# EAGLE library part RFM69HCW (library ipas)
RFM69HCW - ISM Band RF Transceiver
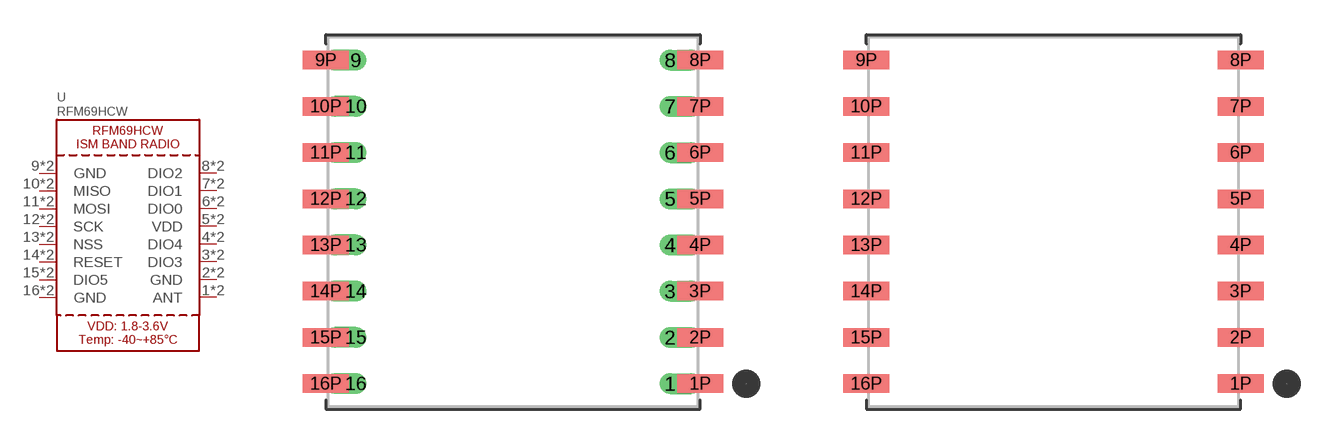
[diagram p39: symbol with the pads of RFM95W/RFM69HCW; footprints RFM95W/RFM69HCW, RFMHCW_SMT]

Designator prefix U

## RFM69HCW  [RFM95W/RFM69HCW]
1  ANT
1P  ANT
2  GND  pwr
2P  GND  pwr
3  DIO3
3P  DIO3
4  DIO4
4P  DIO4
5  VDD  pwr
5P  VDD  pwr
6  DIO0
6P  DIO0
7  DIO1
7P  DIO1
8  DIO2
8P  DIO2
9  GND  pwr
9P  GND  pwr
10  MISO  out
10P  MISO  out
11  MOSI  in
11P  MOSI  in
12  SCK  in
12P  SCK  in
13  NSS  in
13P  NSS  in
14  RESET  in
14P  RESET  in
15  DIO5
15P  DIO5
16  GND  pwr
16P  GND  pwr

## RFM69HCW_SMT  [RFMHCW_SMT]
1P  ANT
2P  GND  pwr
3P  DIO3
4P  DIO4
5P  VDD  pwr
6P  DIO0
7P  DIO1
8P  DIO2
9P  GND  pwr
10P  MISO  out
11P  MOSI  in
12P  SCK  in
13P  NSS  in
14P  RESET  in
15P  DIO5
16P  GND  pwr

## Footprint RFM95W/RFM69HCW (pad centres in mm)
drill 0.4 offset: 1 6.8,-7; 2 6.8,-5; 3 6.8,-3; 4 6.8,-1; 5 6.8,1; 6 6.8,3; 7 6.8,5; 8 6.8,7; 9 -6.8,7; 10 -6.8,5; 11 -6.8,3; 12 -6.8,1; 13 -6.8,-1; 14 -6.8,-3; 15 -6.8,-5; 16 -6.8,-7
smd 2 x 0.8: 1P 8.1,-7; 2P 8.1,-5; 3P 8.1,-3; 4P 8.1,-1; 5P 8.1,1; 6P 8.1,3; 7P 8.1,5; 8P 8.1,7; 9P -8.1,7; 10P -8.1,5; 11P -8.1,3; 12P -8.1,1; 13P -8.1,-1; 14P -8.1,-3; 15P -8.1,-5; 16P -8.1,-7

## Footprint RFMHCW_SMT (pad centres in mm)
smd 2 x 0.8: 1P 8.1,-7; 2P 8.1,-5; 3P 8.1,-3; 4P 8.1,-1; 5P 8.1,1; 6P 8.1,3; 7P 8.1,5; 8P 8.1,7; 9P -8.1,7; 10P -8.1,5; 11P -8.1,3; 12P -8.1,1; 13P -8.1,-1; 14P -8.1,-3; 15P -8.1,-5; 16P -8.1,-7